# EAGLE library part BMI088 (library pi3_hat)
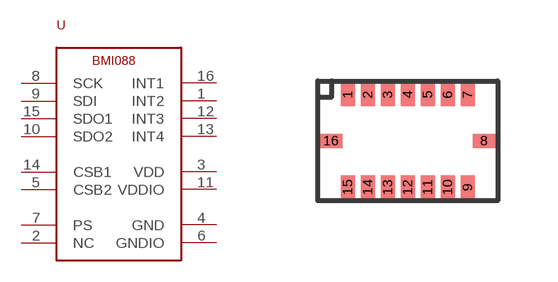
[diagram p7: symbol with the pads of LGA16; footprint LGA16]

Designator prefix -

## BMI088LGA16  [LGA16]
1  INT2
2  NC
3  VDD
4  GND
5  CSB2
6  GNDIO
7  PS
8  SCK
9  SDI
10  SDO2
11  VDDIO
12  INT3
13  INT4
14  CSB1
15  SDO1
16  INT1

## Footprint LGA16 (pad centres in mm)
smd 0.35 x 0.575: 1 -1.5,1.16; 2 -1,1.16; 3 -0.5,1.16; 4 0,1.16; 5 0.5,1.16; 6 1,1.16; 7 1.5,1.16; 9 1.5,-1.16; 10 1,-1.16; 11 0.5,-1.16; 12 0,-1.16; 13 -0.5,-1.16; 14 -1,-1.16; 15 -1.5,-1.16
smd 0.575 x 0.35: 8 1.915,0; 16 -1.915,0